# EAGLE library part OPA357 (library df4iah_opamp)
OPERATIONAL AMPLIFIER WITH SHUTDOWN
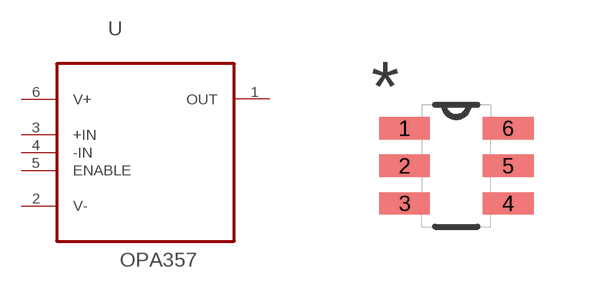
[diagram p2: symbol with the pads of SOT-23-6; footprint SOT-23-6]

Designator prefix U

## OPA357 (MPN: OPA357AIDBVTG4; OC_FARNELL: 1575511; OC_NEWARK: -; PACKAGE: SOT-23-6; SUPPLIER: Texas Instruments)  [SOT-23-6]
1  OUT  out
2  V-  pwr
3  +IN  in
4  -IN  in
5  ENABLE  in
6  V+  pwr

## Footprint SOT-23-6 (pad centres in mm)
smd 1.27 x 0.559: 1 -1.295,0.94; 2 -1.295,0; 3 -1.295,-0.94; 4 1.295,-0.94; 5 1.295,0; 6 1.295,0.94